# Altium footprint library ADLibrary_Footprints.PcbLib: 42 footprints (part 3 of 3)
Each footprint in its own frame and in the unit in brackets; x right, y up, seen from the top. Pads: shape width x height; smd on the part's side, far side on the other; paste and mask are expansions set on the pad; w line width, h text height; cw(c..) or ccw(c..) is an arc to the next point about the centre after c.
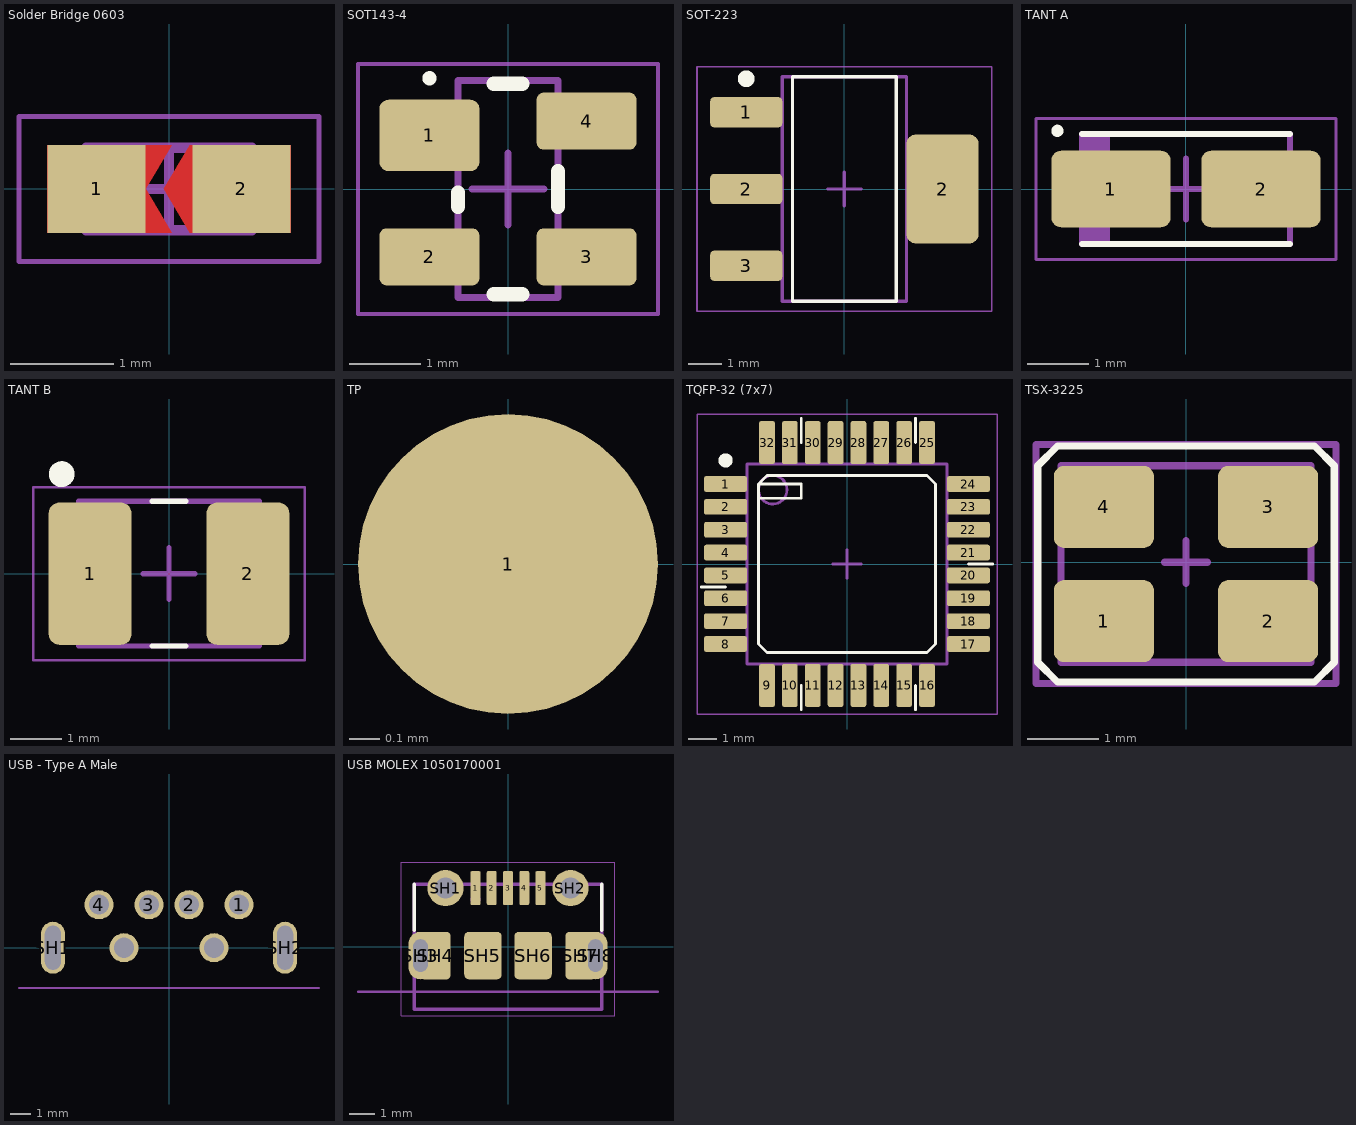
[diagram p2: the footprints below, top view; thin cyan lines are the x and y axes]

## Solder Bridge 0603 [mm]
height 0.45
pads (2):
  rect 0.95x0.85 smd paste+0 mask+0: 1(-0.7,0) 2(0.7,0)
Top Layer:
  region: 0.025,-0.425 -0.225,0 0.025,0.425 -1.175,0.425 -1.175,-0.425
  region: 1.175,0.425 0.2,0.425 -0.05,0 0.2,-0.425 1.175,-0.425
Top Solder:
  region: -1.225,-0.475 0.11,-0.475 -0.175,0 0.11,0.475 -1.225,0.475
  region: 1.225,-0.475 1.225,0.475 0.185,0.475 -0.1,0 0.185,-0.475
Mechanical 13:
  lines w0.1: -0.8,-0.4 0.8,-0.4 0.8,0.4 -0.8,0.4 -0.8,-0.4
Mechanical 15:
  lines w0.05: -1.45,-0.7 1.45,-0.7 1.45,0.7 -1.45,0.7 -1.45,-0.7
  lines w0.1: -0.4,0 0.4,0 ; 0,-0.4 0,0.4
3D body "R0603.stp": height 0.55, standoff 0, extent -0.85,-0.45 0.85,0.45

## SOT143-4 [mm] "SOT143, 4-Leads, Body 2,92x2,51mm, Pitch 1,90mm, IPC Medium Density"
height 1.22
pads (4):
  rrect25% 1.4x1 smd: 1(-1.1,0.75)
  rrect25% 1.4x0.8 smd: 2(-1.1,-0.95) 3(1.1,-0.95) 4(1.1,0.95)
Top Overlay:
  circle w0.1: c-1.1,1.55 r0.05
  lines w0.2: -0.7,-0.25 -0.7,-0.05 ; -0.2,-1.475 0.2,-1.475 ; -0.2,1.475 0.2,1.475 ; 0.7,-0.25 0.7,0.25
Mechanical 13:
  lines w0.1: -0.7,-1.52 -0.7,1.52 0.7,1.52 0.7,-1.52 -0.7,-1.52
Mechanical 15:
  lines w0.05: -2.1,-1.75 -2.1,1.75 2.1,1.75 2.1,-1.75 -2.1,-1.75
  lines w0.1: -0.5,0 0.5,0 ; 0,-0.5 0,0.5
3D body "SP0503BAHTG.STEP": height 1.22, standoff 0, extent -1.185,-1.46 1.185,1.46

## SOT-223 [mm] "SOT223, 4-Leads, Body 6,51x7,00mm (avg), Pitch 2,29mm, IPC Medium Density"
height 1.8
pads (4):
  rrect25% 2.15x0.9 smd: 1(-2.93,2.29) 2(-2.93,0) 3(-2.93,-2.29)
  rrect25% 2.15x3.25 smd: 2(2.93,0)
Top Overlay:
  circle w0.25: c-2.93,3.29 r0.125
  lines w0.1: -1.55,-3.35 -1.55,3.35 1.55,3.35 1.55,-3.35 -1.55,-3.35
Mechanical 13:
  lines w0.1: -1.855,-3.355 -1.855,3.355 1.855,3.355 1.855,-3.355 -1.855,-3.355
Mechanical 15:
  lines w0.05: -4.4,-3.65 -4.4,3.65 4.4,3.65 4.4,-3.65 -4.4,-3.65
  lines w0.1: -0.5,0 0.5,0 ; 0,-0.5 0,0.5
3D body "AMS1117-5.0.STEP": height 1.8, standoff 0, extent -3.499,-3.251 3.499,3.251

## TANT A [mm] "Molded Capacitor, 2-Leads, Body 3,20x1,60mm, IPC Medium Density"
height 1.8
pads (2):
  rrect25% 1.95x1.25 smd: 1(-1.225,0) 2(1.225,0)
Top Overlay:
  circle w0.1: c-2.1,0.95 r0.05
  lines w0.1: -1.7,-0.9 1.7,-0.9 ; -1.7,0.9 1.7,0.9
Mechanical 13:
  rectangle: -1.7,-0.9 -1.243,0.9
  lines w0.1: -1.7,-0.9 -1.7,0.9 1.7,0.9 1.7,-0.9 -1.7,-0.9
Mechanical 15:
  lines w0.05: -2.45,-1.15 -2.45,1.15 2.45,1.15 2.45,-1.15 -2.45,-1.15
  lines w0.1: -0.5,0 0.5,0 ; 0,-0.5 0,0.5
3D body "TANT A.STEP": height 1.8, standoff 0, extent -1.819,-0.9 1.819,0.903

## TANT B [mm] "Molded Capacitor, 2-Leads, Body 3,50x2,80mm, IPC Medium Density"
height 1.9
pads (2):
  rrect25% 1.6x2.75 smd: 1(-1.525,0) 2(1.525,0)
Top Overlay:
  circle w0.25: c-2.075,1.925 r0.125
  lines w0.1: -0.325,-1.4 0.325,-1.4 ; -0.325,1.4 0.325,1.4
Mechanical 13:
  rectangle: -1.75,-1.4 -1.279,1.4
  lines w0.1: -1.75,-1.4 -1.75,1.4 1.75,1.4 1.75,-1.4 -1.75,-1.4
Mechanical 15:
  lines w0.05: -2.625,-1.675 -2.625,1.675 2.625,1.675 2.625,-1.675 -2.625,-1.675
  lines w0.1: -0.5,0 0.5,0 ; 0,-0.5 0,0.5
3D body "TANT B.step": height 1.91, standoff 0, extent -1.75,-1.4 1.75,1.4

## TP [mm] "Test Point"
pads (1):
  round 1 smd: 1(0,0)
Mechanical 15:
  lines w0.1: -0.4,0 0.4,0 ; 0,-0.4 0,0.4

## TQFP-32 (7x7) [mm] "CQFP, 32-Leads, Body 9,00x9,00mm, Pitch 0,80mm, IPC Medium Density"
height 1.2
pads (32):
  rrect25% 1.5x0.55 smd: 1(-4.25,2.8) 2(-4.25,2) 3(-4.25,1.2) 4(-4.25,0.4) 5(-4.25,-0.4) 6(-4.25,-1.2) 7(-4.25,-2) 8(-4.25,-2.8) 17(4.25,-2.8) 18(4.25,-2) 19(4.25,-1.2) 20(4.25,-0.4) 21(4.25,0.4) 22(4.25,1.2) 23(4.25,2) 24(4.25,2.8)
  rrect25% 0.55x1.5 smd: 9(-2.8,-4.25) 10(-2,-4.25) 11(-1.2,-4.25) 12(-0.4,-4.25) 13(0.4,-4.25) 14(1.2,-4.25) 15(2,-4.25) 16(2.8,-4.25) 25(2.8,4.25) 26(2,4.25) 27(1.2,4.25) 28(0.4,4.25) 29(-0.4,4.25) 30(-1.2,4.25) 31(-2,4.25) 32(-2.8,4.25)
Top Overlay:
  circle w0.25: c-4.25,3.625 r0.125
  lines w0.1: -5.1,-0.8 -4.25,-0.8 ; -3.1,2.3 -1.6,2.3 -1.6,2.8 -3.1,2.8 ; -1.6,-5.1 -1.6,-4.25 ; -1.6,4.25 -1.6,5.1 ; 2.4,-5.1 2.4,-4.25 ; 2.4,4.25 2.4,5.1 ; 4.25,0 5.1,0 ; -3.1,2.8 -2.8,3.1 2.8,3.1 3.1,2.8 3.1,-2.8 2.8,-3.1 -2.8,-3.1 -3.1,-2.8 -3.1,2.8
Mechanical 13:
  circle w0.1: c-2.6,2.6 r0.5
  lines w0.1: -3.5,-3.5 3.5,-3.5 3.5,3.5 -3.5,3.5 -3.5,-3.5
Mechanical 15:
  lines w0.05: -5.25,-5.25 5.25,-5.25 5.25,5.25 -5.25,5.25 -5.25,-5.25
  lines w0.1: -0.5,0 0.5,0 ; 0,-0.5 0,0.5
3D body "ATMEGA328PB-AU.STEP": height 1, standoff -0.1, extent -4.498,-4.498 4.498,4.498

## TSX-3225 [mm] "Crystal"
pads (4):
  rrect25% 1.4x1.15 smd: 1(-1.15,-0.825) 2(1.15,-0.825) 3(1.15,0.775) 4(-1.15,0.775)
Top Overlay:
  lines w0.1: -2.075,-1.4 -2.075,1.35 -1.8,1.625 1.8,1.625 2.075,1.35 2.075,-1.4 1.8,-1.675 -1.8,-1.675 -2.075,-1.4
Mechanical 1:
  lines w0.1: -1.75,-1.4 1.75,-1.4 1.75,1.35 -1.75,1.35 -1.75,-1.4
Mechanical 15:
  lines w0.1: -0.3,0 0.3,0 ; 0,-0.3 0,0.3 ; -2.1,-1.7 -2.1,1.65 2.1,1.65 2.1,-1.7 -2.1,-1.7
3D body "TSX-3225.step": height 0.6, standoff 0, extent -1.6,-1.275 1.6,1.225

## USB - Type A Male [mm]
pads (8):
  round 1.45 hole 1: 1(3.5,2.15) 2(1,2.15) 3(-1,2.15) 4(-3.5,2.15) ""(-2.25,0) ""(2.25,0)
  oval 1.2x2.6 hole 0.8 slot 2.2 at 90 deg: SH1(-5.8,0) SH2(5.8,0)
Mechanical 13:
  lines w0.1: -7.5,-2 7.5,-2
  text "PCB EDGE" at 6.5,-1.8 h0.41
3D body "USB Type A Male.STEP": height 4.23, standoff -1.97, extent -6.31,-17.882 6.29,2.318

## USB MOLEX 1050170001 [mm]
pads (13):
  rrect25% 0.4x1.35 smd: 1(-1.3,2.35) 2(-0.65,2.35) 3(0,2.35) 4(0.65,2.35) 5(1.3,2.35)
  round 1.45 hole 0.85: SH1(-2.5,2.35) SH2(2.5,2.35)
  oval 0.95x1.9 hole 0.6 slot 1.3 at 90 deg: SH3(-3.5,-0.35) SH8(3.5,-0.35)
  rrect25% 1.2x1.9 smd: SH4(-2.9,-0.35) SH7(2.9,-0.35)
  rrect25% 1.5x1.9 smd: SH5(-1,-0.35) SH6(1,-0.35)
Top Overlay:
  lines w0.127: -3.75,0.65 -3.75,2.5 ; 3.75,0.65 3.75,2.5
Mechanical 13:
  circle w0.2: c-1.3,1.9 r0.1
  lines w0.1: -6,-1.8 -3.75,-1.8 3.75,-1.8 6,-1.8
  lines w0.127: -3.75,-2.5 3.75,-2.5 3.75,-1.8 3.75,2.5 -3.75,2.5 -3.75,-1.8 -3.75,-2.45
  text "PCB EDGE" at 4.8,-1.7 h0.41
Mechanical 15:
  lines w0.05: -4.275,-2.75 -4.275,3.375 4.275,3.375 4.275,-2.75 -4.275,-2.75
3D body "105017-0001.stp": height 2.66, standoff -0.64, extent -4.1,-2.75 4.1,2.65